# EAGLE library part PINHD-2X5 (library _mtvl.connectors)
PIN HEADER
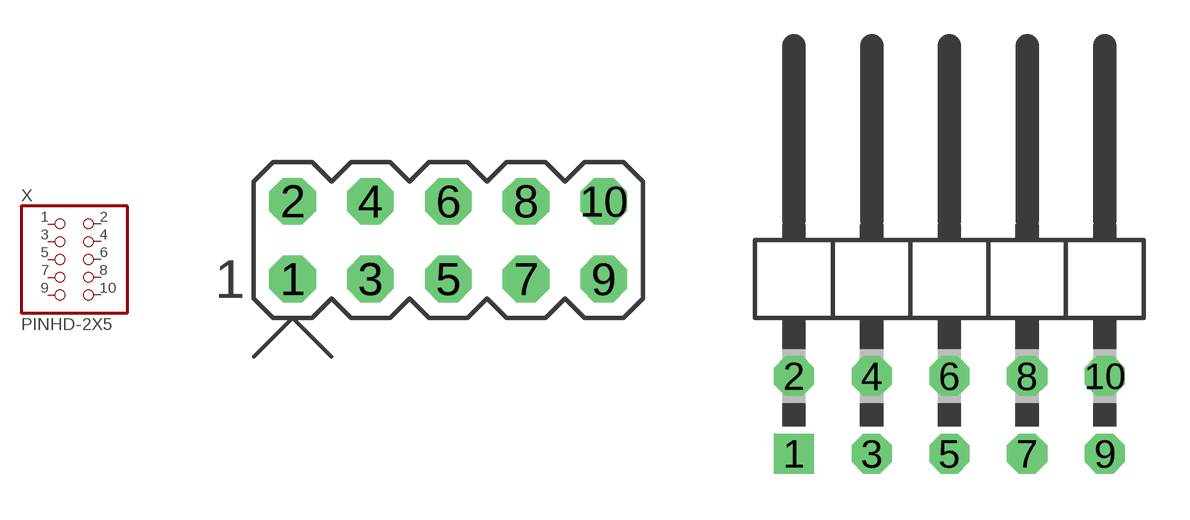
[diagram p3: symbol with the pads of 2X05P; footprints 2X05P, 2X05/90]

Designator prefix X

## PINHD-2X5P  [2X05P]
1  1  pas
2  2  pas
3  3  pas
4  4  pas
5  5  pas
6  6  pas
7  7  pas
8  8  pas
9  9  pas
10  10  pas

## PINHD-2X5/90  [2X05/90]
Pads as for 2X05P

## PINHD-2X5  [2X05]
Pads as for 2X05P

## PINHD-2X5PDB-10_REV  [2X05F_REVERSED]
Pads as for 2X05P

## Footprint 2X05P (pad centres in mm)
PIN HEADER
drill 0.9 pad 1.524 octagon: 1 -5.08,-1.27; 2 -5.08,1.27; 3 -2.54,-1.27; 4 -2.54,1.27; 5 0,-1.27; 6 0,1.27; 7 2.54,-1.27; 8 2.54,1.27; 9 5.08,-1.27; 10 5.08,1.27

## Footprint 2X05/90 (pad centres in mm)
PIN HEADER
drill 0.8 square: 1 -5.08,-6.35
drill 0.8 octagon: 2 -5.08,-3.81; 3 -2.54,-6.35; 4 -2.54,-3.81; 5 0,-6.35; 6 0,-3.81; 7 2.54,-6.35; 8 2.54,-3.81; 9 5.08,-6.35; 10 5.08,-3.81

## Footprint 2X05 (pad centres in mm)
drill 0.8 square: 1 -5.08,-1.27
drill 0.8 octagon: 2 -5.08,1.27; 3 -2.54,-1.27; 4 -2.54,1.27; 5 0,-1.27; 6 0,1.27; 7 2.54,-1.27; 8 2.54,1.27; 9 5.08,-1.27; 10 5.08,1.27

## Footprint 2X05F_REVERSED (pad centres in mm)
PBD-10 (DS-1023-2x5) BOTTOM PLACEMENT (reversed pins)
drill 0.8 square: 1 -5.08,-1.27
drill 0.8 octagon: 2 -5.08,1.27; 3 -2.54,-1.27; 4 -2.54,1.27; 5 0,-1.27; 6 0,1.27; 7 2.54,-1.27; 8 2.54,1.27; 9 5.08,-1.27; 10 5.08,1.27